# Altium schematic symbol library pqm_v2_lib_mag.SchLib: 2 symbols
Pins are listed as number, name and electrical type; pins without a type are passive.

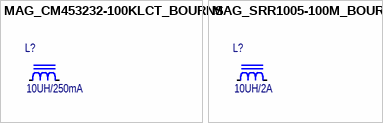
[diagram p0: symbols MAG_CM453232-100KLCT_BOURNS to MAG_SRR1005-100M_BOURNS]

## MAG_CM453232-100KLCT_BOURNS
designator L?  value 10UH/250mA
FIXED IND 10UH 2A 65 MOHM SMD; Manufacturer: Bourns Inc; Manufacturer Part Number: CM453232-100KL; BOM Populate: *; Current Rating: *; Supplier: *; Supplier Part No: *; Digikey Part Number: CM453232-100KLCT-ND; Voltage Rating: *; Tolerance: *; Mouser Part Number: 652-CM453232-100KL
footprint INDC4532X170N (Chip Inductor, Body 4.5x3.2mm, IPC Medium Density)
pins: 1, 2

## MAG_SRR1005-100M_BOURNS
designator L?  value 10UH/2A
FIXED IND 10UH 2A 65 MOHM SMD; Manufacturer: Bourns Inc; Manufacturer Part Number: SRR1005-100M; BOM Populate: *; Current Rating: *; Supplier: *; Supplier Part No: *; Digikey Part Number: SRR1005-100MCT-ND; Voltage Rating: *; Tolerance: *; Mouser Part Number: 652-SRR1005-100M
footprint MAG_INDUCTOR2A (Precision Wire Wound Inductor, 2-Leads, Body 12,7x10,0mm, IPC Medium Density)
pins: 1, 2